# EAGLE library part W5300 (library Radicon)
W5300 High-Performance Internet Connectivity Solution
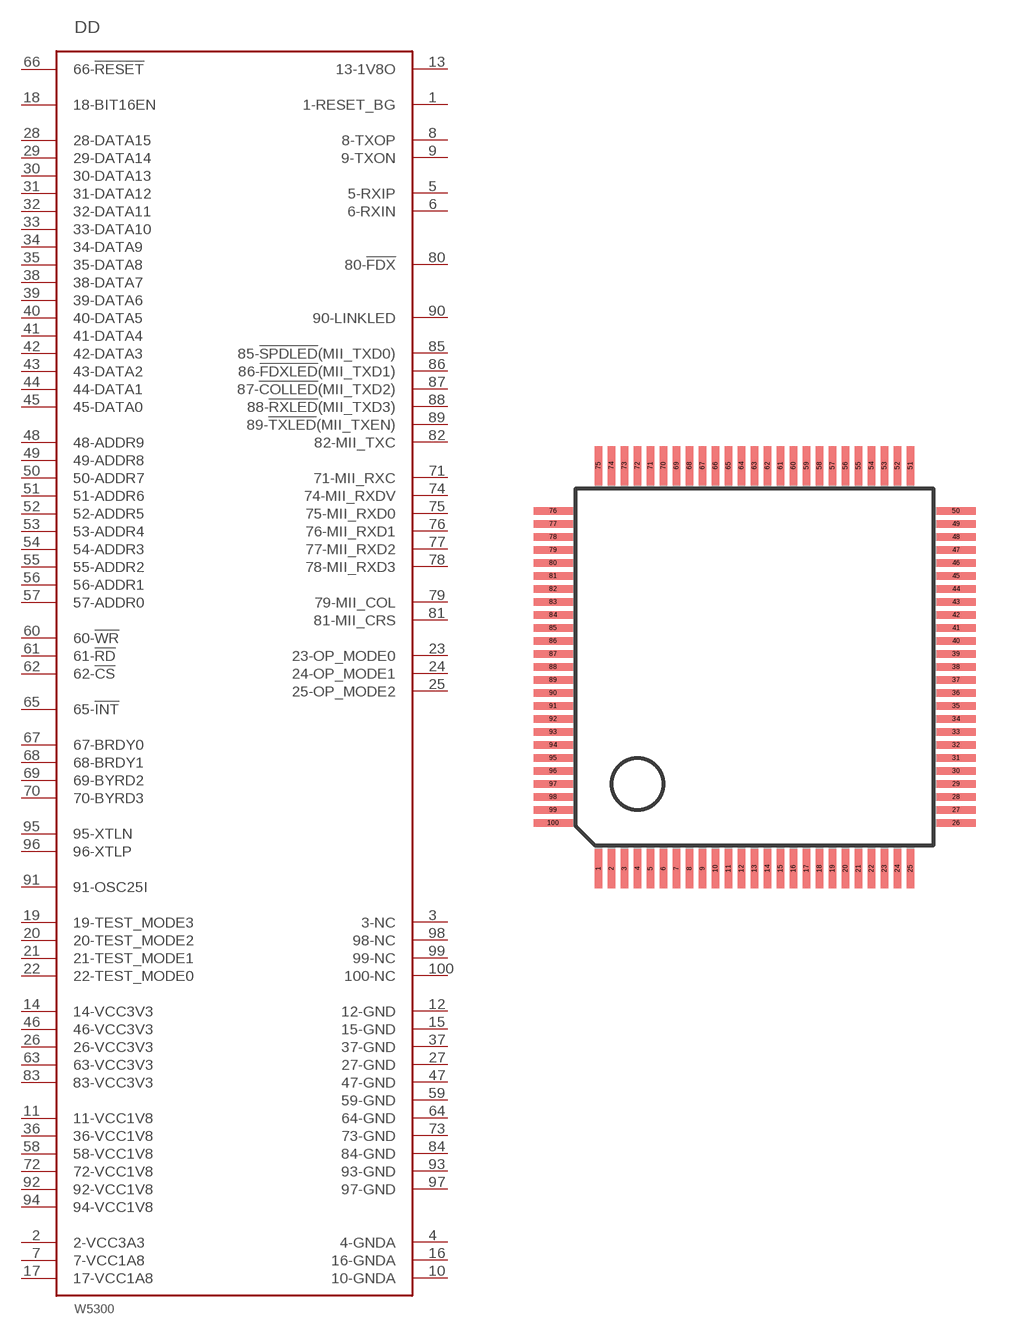
[diagram p51: symbol with the pads of TQFP100; footprint TQFP100]

Designator prefix DD

## W5300  [TQFP100]
1  1-RESET_BG
2  2-VCC3A3
3  3-NC
4  4-GNDA
5  5-RXIP
6  6-RXIN
7  7-VCC1A8
8  8-TXOP
9  9-TXON
10  10-GNDA
11  11-VCC1V8
12  12-GND
13  13-1V8O
14  14-VCC3V3
15  15-GND
16  16-GNDA
17  17-VCC1A8
18  18-BIT16EN
19  19-TEST_MODE3
20  20-TEST_MODE2
21  21-TEST_MODE1
22  22-TEST_MODE0
23  23-OP_MODE0
24  24-OP_MODE1
25  25-OP_MODE2
26  26-VCC3V3
27  27-GND
28  28-DATA15
29  29-DATA14
30  30-DATA13
31  31-DATA12
32  32-DATA11
33  33-DATA10
34  34-DATA9
35  35-DATA8
36  36-VCC1V8
37  37-GND
38  38-DATA7
39  39-DATA6
40  40-DATA5
41  41-DATA4
42  42-DATA3
43  43-DATA2
44  44-DATA1
45  45-DATA0
46  46-VCC3V3
47  47-GND
48  48-ADDR9
49  49-ADDR8
50  50-ADDR7
51  51-ADDR6
52  52-ADDR5
53  53-ADDR4
54  54-ADDR3
55  55-ADDR2
56  56-ADDR1
57  57-ADDR0
58  58-VCC1V8
59  59-GND
60  60-!WR
61  61-!RD
62  62-!CS
63  63-VCC3V3
64  64-GND
65  65-!INT
66  66-!RESET
67  67-BRDY0
68  68-BRDY1
69  69-BYRD2
70  70-BYRD3
71  71-MII_RXC
72  72-VCC1V8
73  73-GND
74  74-MII_RXDV
75  75-MII_RXD0
76  76-MII_RXD1
77  77-MII_RXD2
78  78-MII_RXD3
79  79-MII_COL
80  80-!FDX
81  81-MII_CRS
82  82-MII_TXC
83  83-VCC3V3
84  84-GND
85  85-!SPDLED!(MII_TXD0)
86  86-!FDXLED!(MII_TXD1)
87  87-!COLLED!(MII_TXD2)
88  88-!RXLED!(MII_TXD3)
89  89-!TXLED!(MII_TXEN)
90  90-LINKLED
91  91-OSC25I
92  92-VCC1V8
93  93-GND
94  94-VCC1V8
95  95-XTLN
96  96-XTLP
97  97-GND
98  98-NC
99  99-NC
100  100-NC

## Footprint TQFP100 (pad centres in mm)
Thin Quad Flat Pack
smd 0.27 x 1.5: 1 -6,-7.75; 2 -5.5,-7.75; 3 -5,-7.75; 4 -4.5,-7.75; 5 -4,-7.75; 6 -3.5,-7.75; 7 -3,-7.75; 8 -2.5,-7.75; 9 -2,-7.75; 10 -1.5,-7.75; 11 -1,-7.75; 12 -0.5,-7.75; 13 0,-7.75; 14 0.5,-7.75; 15 1,-7.75; 16 1.5,-7.75; 17 2,-7.75; 18 2.5,-7.75; 19 3,-7.75; 20 3.5,-7.75; 21 4,-7.75; 22 4.5,-7.75; 23 5,-7.75; 24 5.5,-7.75; 25 6,-7.75; 51 6,7.75; 52 5.5,7.75; 53 5,7.75; 54 4.5,7.75; 55 4,7.75; 56 3.5,7.75; 57 3,7.75; 58 2.5,7.75; 59 2,7.75; 60 1.5,7.75; 61 1,7.75; 62 0.5,7.75; 63 0,7.75; 64 -0.5,7.75; 65 -1,7.75; 66 -1.5,7.75; 67 -2,7.75; 68 -2.5,7.75; 69 -3,7.75; 70 -3.5,7.75; 71 -4,7.75; 72 -4.5,7.75; 73 -5,7.75; 74 -5.5,7.75; 75 -6,7.75
smd 1.5 x 0.27: 26 7.75,-6; 27 7.75,-5.5; 28 7.75,-5; 29 7.75,-4.5; 30 7.75,-4; 31 7.75,-3.5; 32 7.75,-3; 33 7.75,-2.5; 34 7.75,-2; 35 7.75,-1.5; 36 7.75,-1; 37 7.75,-0.5; 38 7.75,0; 39 7.75,0.5; 40 7.75,1; 41 7.75,1.5; 42 7.75,2; 43 7.75,2.5; 44 7.75,3; 45 7.75,3.5; 46 7.75,4; 47 7.75,4.5; 48 7.75,5; 49 7.75,5.5; 50 7.75,6; 76 -7.75,6; 77 -7.75,5.5; 78 -7.75,5; 79 -7.75,4.5; 80 -7.75,4; 81 -7.75,3.5; 82 -7.75,3; 83 -7.75,2.5; 84 -7.75,2; 85 -7.75,1.5; 86 -7.75,1; 87 -7.75,0.5; 88 -7.75,0; 89 -7.75,-0.5; 90 -7.75,-1; 91 -7.75,-1.5; 92 -7.75,-2; 93 -7.75,-2.5; 94 -7.75,-3; 95 -7.75,-3.5; 96 -7.75,-4; 97 -7.75,-4.5; 98 -7.75,-5; 99 -7.75,-5.5; 100 -7.75,-6